# Altium footprint library LCR的PCB库封装.PcbLib: 2 footprints
Each footprint in its own frame and in the unit in brackets; x right, y up, seen from the top. Pads: shape width x height; smd on the part's side, far side on the other; paste and mask are expansions set on the pad; w line width, h text height; cw(c..) or ccw(c..) is an arc to the next point about the centre after c.
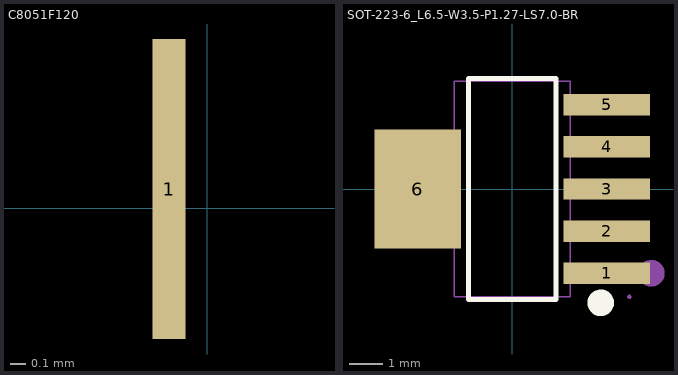
[diagram p0: the footprints below, top view; thin cyan lines are the x and y axes]

## C8051F120 [mil]
pads (2):
  rect 8.66x78.74 smd: 1(-10,5)
  rect 0x0 smd: 1(0,0)

## SOT-223-6_L6.5-W3.5-P1.27-LS7.0-BR [mm]
pads (6):
  rect 2.595x0.644 smd paste+0.051: 1(2.848,-2.54) 2(2.848,-1.27) 3(2.848,0) 4(2.848,1.27) 5(2.848,2.54)
  rect 2.595x3.6 smd paste+0.051: 6(-2.848,0)
Top Overlay:
  circle w0.4: c2.667,-3.429 r0.2
  lines w0.152: -1.321,-3.326 1.321,-3.326 1.321,3.326 -1.321,3.326 -1.321,-3.326
Mechanical 2:
  circle w0.4: c4.191,-2.54 r0.2
Mechanical 6:
  lines w0.051: -1.75,-3.25 1.75,-3.25 1.75,3.25 -1.75,3.25 -1.75,-3.25
Mechanical 7:
  region: 1.74,-2.77 1.74,-2.31 2.515,-2.31 2.515,-2.77
  region: 1.74,-1.5 1.74,-1.04 2.515,-1.04 2.515,-1.5
  region: 1.74,-0.23 1.74,0.23 2.515,0.23 2.515,-0.23
  region: 1.74,1.04 1.74,1.5 2.515,1.5 2.515,1.04
  region: 1.74,2.31 1.74,2.77 2.515,2.77 2.515,2.31
  region: -2.515,-1.5 -2.515,1.5 -1.74,1.5 -1.74,-1.5
Mechanical 8:
  region: 3.59,-3.25 3.59,-3.275 3.555,-3.31 3.505,-3.31 3.47,-3.275 3.47,-3.25 3.47,-3.225 3.505,-3.19 3.555,-3.19 3.59,-3.225 3.59,-3.25
Mechanical 9:
  region: 2.505,-2.77 2.505,-2.31 3.53,-2.31 3.53,-2.77
  region: 2.505,-1.5 2.505,-1.04 3.53,-1.04 3.53,-1.5
  region: 2.505,-0.23 2.505,0.23 3.53,0.23 3.53,-0.23
  region: 2.505,1.04 2.505,1.5 3.53,1.5 3.53,1.04
  region: 2.505,2.31 2.505,2.77 3.53,2.77 3.53,2.31
  region: -2.505,-1.5 -2.505,1.5 -3.53,1.5 -3.53,-1.5